# EAGLE library part PIC16F1829-X_SL (library wirelessSensor)
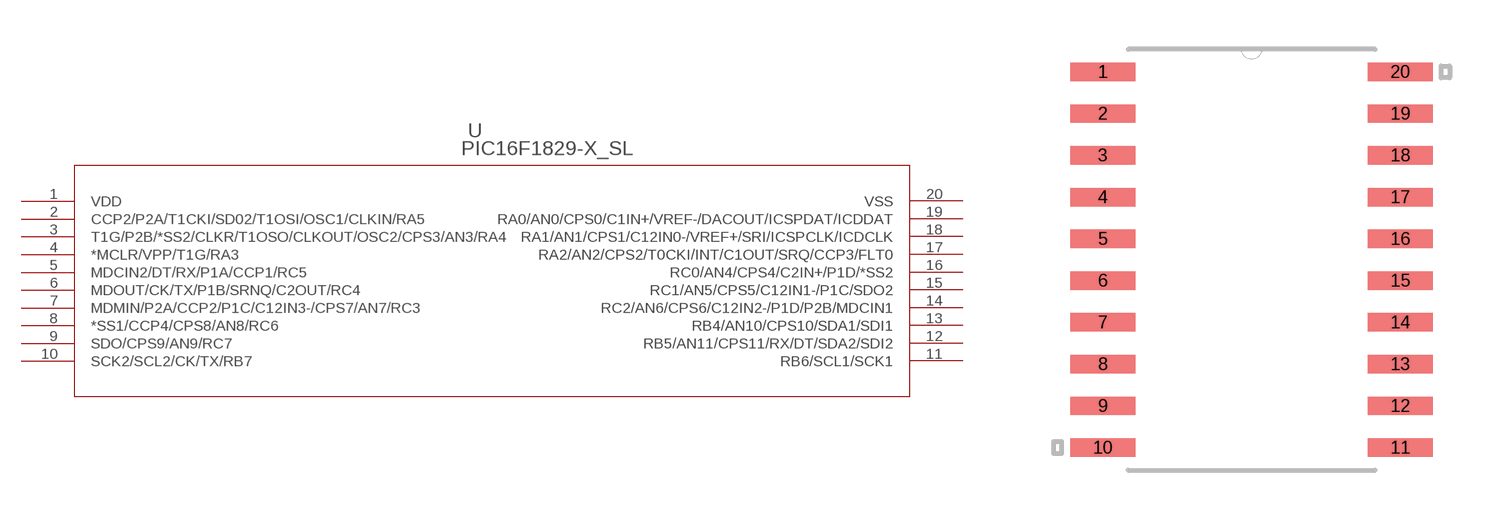
[diagram p1: symbol with the pads of SOIC20-W_MC; footprint SOIC20-W_MC]

Designator prefix U

## PIC16F1829-X_SL  [SOIC20-W_MC]
1  VDD  pwr
2  CCP2/P2A/T1CKI/SD02/T1OSI/OSC1/CLKIN/RA5
3  T1G/P2B/*SS2/CLKR/T1OSO/CLKOUT/OSC2/CPS3/AN3/RA4
4  *MCLR/VPP/T1G/RA3
5  MDCIN2/DT/RX/P1A/CCP1/RC5
6  MDOUT/CK/TX/P1B/SRNQ/C2OUT/RC4
7  MDMIN/P2A/CCP2/P1C/C12IN3-/CPS7/AN7/RC3
8  *SS1/CCP4/CPS8/AN8/RC6
9  SDO/CPS9/AN9/RC7
10  SCK2/SCL2/CK/TX/RB7
11  RB6/SCL1/SCK1
12  RB5/AN11/CPS11/RX/DT/SDA2/SDI2
13  RB4/AN10/CPS10/SDA1/SDI1
14  RC2/AN6/CPS6/C12IN2-/P1D/P2B/MDCIN1
15  RC1/AN5/CPS5/C12IN1-/P1C/SDO2
16  RC0/AN4/CPS4/C2IN+/P1D/*SS2
17  RA2/AN2/CPS2/T0CKI/INT/C1OUT/SRQ/CCP3/FLT0
18  RA1/AN1/CPS1/C12IN0-/VREF+/SRI/ICSPCLK/ICDCLK
19  RA0/AN0/CPS0/C1IN+/VREF-/DACOUT/ICSPDAT/ICDDAT
20  VSS  pwr

## Footprint SOIC20-W_MC (pad centres in mm)
smd 1.981 x 0.559: 1 -4.521,5.715; 2 -4.521,4.445; 3 -4.521,3.175; 4 -4.521,1.905; 5 -4.521,0.635; 6 -4.521,-0.635; 7 -4.521,-1.905; 8 -4.521,-3.175; 9 -4.521,-4.445; 10 -4.521,-5.715; 11 4.521,-5.715; 12 4.521,-4.445; 13 4.521,-3.175; 14 4.521,-1.905; 15 4.521,-0.635; 16 4.521,0.635; 17 4.521,1.905; 18 4.521,3.175; 19 4.521,4.445; 20 4.521,5.715